# Altium footprint library QFN.PcbLib: 46 footprints (part 2 of 3)
Each footprint in its own frame and in the unit in brackets; x right, y up, seen from the top. Pads: shape width x height; smd on the part's side, far side on the other; paste and mask are expansions set on the pad; w line width, h text height; cw(c..) or ccw(c..) is an arc to the next point about the centre after c.
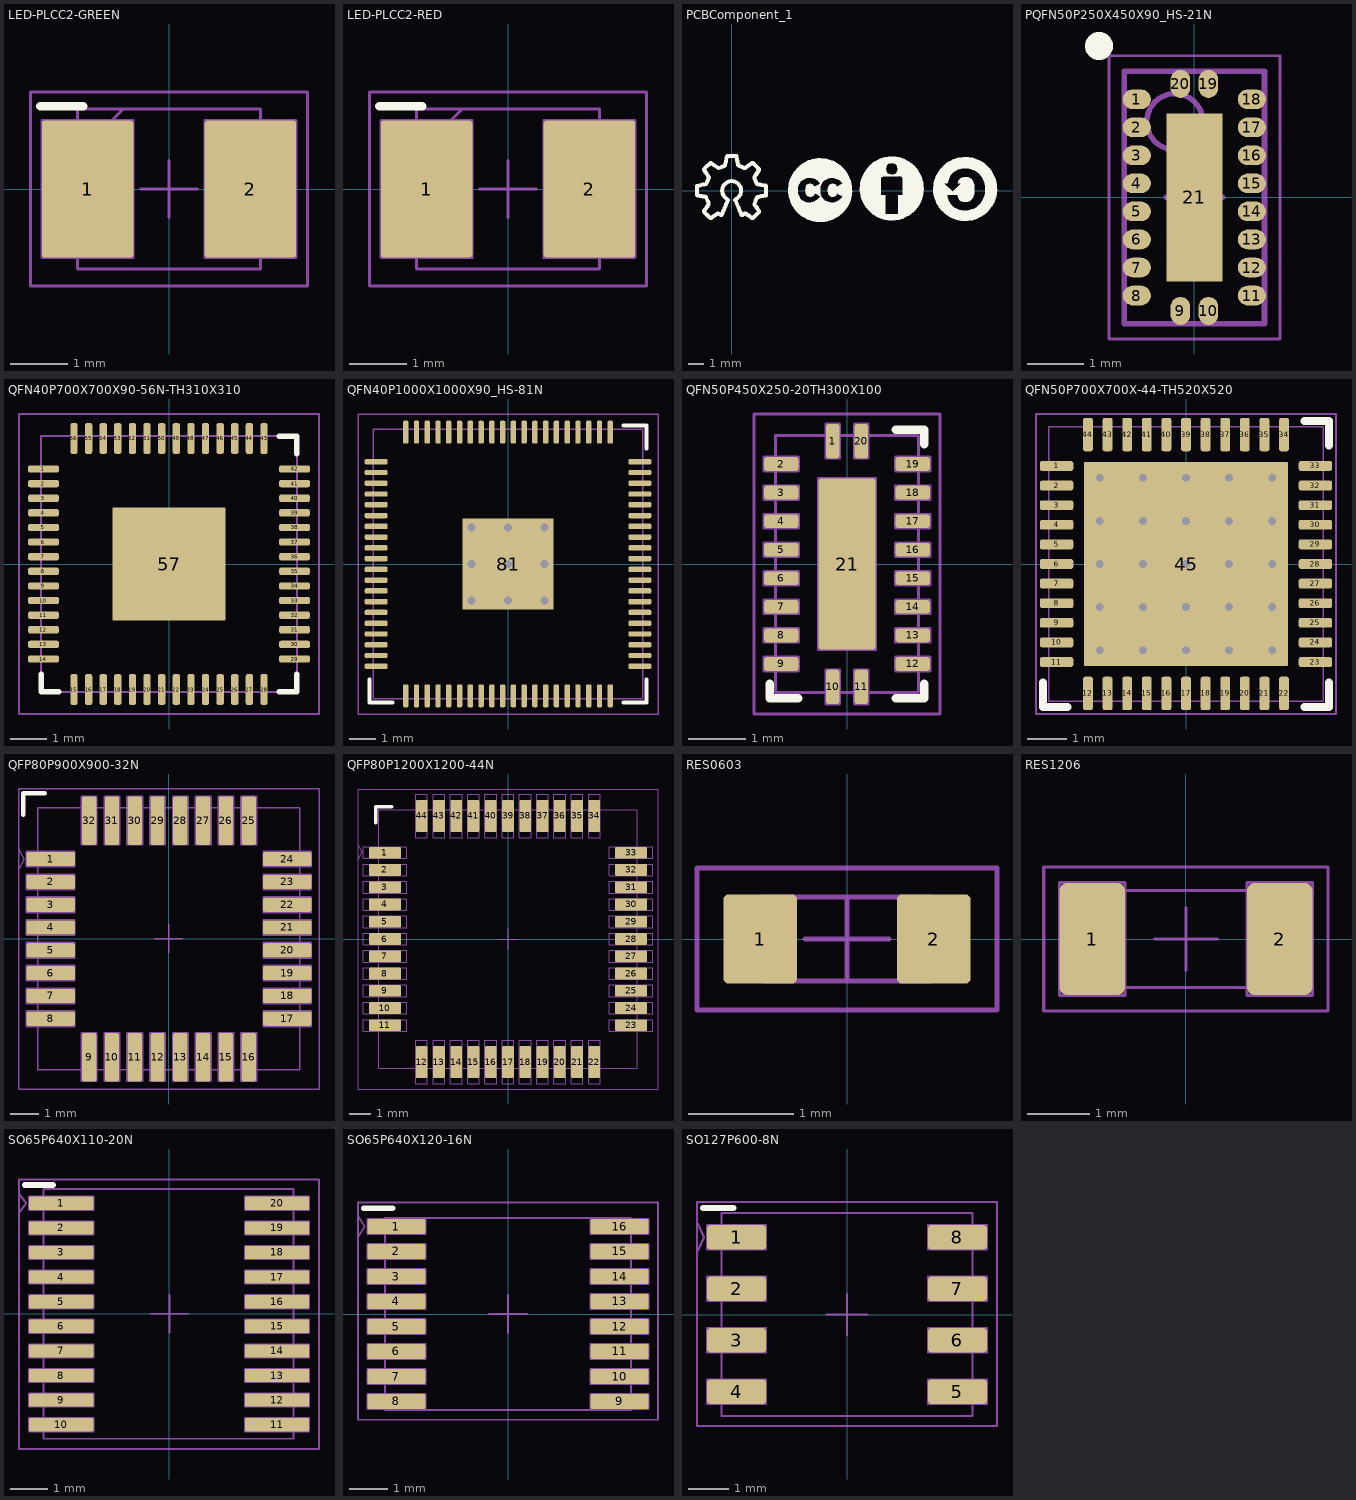
[diagram p1: the footprints below, top view; thin cyan lines are the x and y axes]

## LED-PLCC2-GREEN [mm] "SMD Mono-color TOP LED, body 3.2x2.8mm"
height 1.9
pads (2):
  rrect6% 1.6x2.4 smd mask+0.05: 1(-1.425,0) 2(1.425,0)
Top Overlay:
  lines w0.15: -2.25,1.45 -1.5,1.45
Top Courtyard:
  lines w0.05: -0.5,0 0.5,0 ; 0,-0.5 0,0.5 ; -2.425,-1.7 2.425,-1.7 2.425,1.7 -2.425,1.7 -2.425,-1.7
Top Assembly:
  lines w0.05: -1.6,0.6 -0.8,1.4 ; -2.225,-1.2 -0.625,-1.2 -0.625,1.2 -1.425,1.2 -2.225,1.2 -2.225,-1.2 ; -1.6,-1.4 1.6,-1.4 1.6,1.4 -1.6,1.4 -1.6,-1.4 ; 0.625,-1.2 2.225,-1.2 2.225,1.2 1.425,1.2 0.625,1.2 0.625,0 0.625,-1.2
  text "K" at -2.225,-1.185 h2
3D body: height 1.27, standoff 0, extent -1,-1 1,1
3D body "150141xxx73113.stp": height 1.9, standoff 0, extent -1.75,-1.4 1.75,1.4

## LED-PLCC2-RED [mm] "SMD Mono-color TOP LED, body 3.2x2.8mm"
height 1.9
pads (2):
  rrect6% 1.6x2.4 smd mask+0.05: 1(-1.425,0) 2(1.425,0)
Top Overlay:
  lines w0.15: -2.25,1.45 -1.5,1.45
Top Courtyard:
  lines w0.05: -0.5,0 0.5,0 ; 0,-0.5 0,0.5 ; -2.425,-1.7 2.425,-1.7 2.425,1.7 -2.425,1.7 -2.425,-1.7
Top Assembly:
  lines w0.05: -1.6,0.6 -0.8,1.4 ; -2.225,-1.2 -0.625,-1.2 -0.625,1.2 -1.425,1.2 -2.225,1.2 -2.225,-1.2 ; -1.6,-1.4 1.6,-1.4 1.6,1.4 -1.6,1.4 -1.6,-1.4 ; 0.625,-1.2 2.225,-1.2 2.225,1.2 1.425,1.2 0.625,1.2 0.625,0 0.625,-1.2
  text "K" at -2.225,-1.185 h2
3D body: height 1.27, standoff 0, extent -1,-1 1,1
3D body "150141xxx73113.stp": height 1.9, standoff 0, extent -1.75,-1.4 1.75,1.4

## PCBComponent_1 [mm]
Top Overlay:
  drawing of 274 lines, arcs and shapes, not listed

## PCBComponent_1 - duplicate [mm]

## PQFN50P250X450X90_HS-21N [mm] "PQFN, 20-Leads, Body 2.50x4.50mm, Pitch 0.50mm, Thermal Pad 1.00x3.00mm, IPC Medium Density"
height 0.9
pads (21):
  oval 0.5x0.35 smd: 1(-1.025,1.75) 2(-1.025,1.25) 3(-1.025,0.75) 4(-1.025,0.25) 5(-1.025,-0.25) 6(-1.025,-0.75) 7(-1.025,-1.25) 8(-1.025,-1.75) 11(1.025,-1.75) 12(1.025,-1.25) 13(1.025,-0.75) 14(1.025,-0.25) 15(1.025,0.25) 16(1.025,0.75) 17(1.025,1.25) 18(1.025,1.75)
  oval 0.35x0.5 smd: 9(-0.25,-2.025) 10(0.25,-2.025) 19(0.25,2.025) 20(-0.25,2.025)
  rect 1x3 smd: 21(0,0)
Top Overlay:
  circle w0.25: c-1.7,2.7 r0.125
Top Courtyard:
  lines w0.05: -1.525,-2.525 1.525,-2.525 1.525,2.525 -1.525,2.525 -1.525,-2.525
  lines w0.1: -0.5,0 0.5,0 ; 0,-0.5 0,0.5
Top Assembly:
  circle w0.1: c-0.35,1.35 r0.5
  lines w0.1: -1.25,-2.25 1.25,-2.25 1.25,2.25 -1.25,2.25 -1.25,-2.25
3D body "PQFN50P250X450X90_HS-21N.step": height 0.9, standoff 0, extent -1.25,-2.25 1.25,2.25

## QFN40P700X700X90-56N-TH310X310 [mm]
height 0.9
pads (57):
  rrect50% 0.84x0.2 smd mask+0.05: 1(-3.435,2.6) 2(-3.435,2.2) 3(-3.435,1.8) 4(-3.435,1.4) 5(-3.435,1) 6(-3.435,0.6) 7(-3.435,0.2) 8(-3.435,-0.2) 9(-3.435,-0.6) 10(-3.435,-1) 11(-3.435,-1.4) 12(-3.435,-1.8) 13(-3.435,-2.2) 14(-3.435,-2.6) 29(3.435,-2.6) 30(3.435,-2.2) 31(3.435,-1.8) 32(3.435,-1.4) 33(3.435,-1) 34(3.435,-0.6) 35(3.435,-0.2) 36(3.435,0.2) 37(3.435,0.6) 38(3.435,1) 39(3.435,1.4) 40(3.435,1.8) 41(3.435,2.2) 42(3.435,2.6)
  rrect50% 0.2x0.84 smd mask+0.05: 15(-2.6,-3.435) 16(-2.2,-3.435) 17(-1.8,-3.435) 18(-1.4,-3.435) 19(-1,-3.435) 20(-0.6,-3.435) 21(-0.2,-3.435) 22(0.2,-3.435) 23(0.6,-3.435) 24(1,-3.435) 25(1.4,-3.435) 26(1.8,-3.435) 27(2.2,-3.435) 28(2.6,-3.435) 43(2.6,3.435) 44(2.2,3.435) 45(1.8,3.435) 46(1.4,3.435) 47(1,3.435) 48(0.6,3.435) 49(0.2,3.435) 50(-0.2,3.435) 51(-0.6,3.435) 52(-1,3.435) 53(-1.4,3.435) 54(-1.8,3.435) 55(-2.2,3.435) 56(-2.6,3.435)
  rrect3% 3.1x3.1 smd paste-0.57 mask+0.05: 57(0,0)
Top Overlay:
  lines w0.15: -3.5,-3.02 -3.5,-3.5 -3.02,-3.5 ; 3.02,-3.5 3.5,-3.5 3.5,-3.02 ; 3.02,3.5 3.5,3.5 3.5,3.02
Top Courtyard:
  lines w0.05: -4.105,-4.105 4.105,-4.105 4.105,4.105 -4.105,4.105 -4.105,-4.105
Top Assembly:
  lines w0.05: -3.5,-3.5 -3.5,3.5 3.5,3.5 3.5,-3.5 -3.5,-3.5
3D body "step_temp.STEP": height 0.9, standoff 0, extent -3.5,-3.5 3.5,3.5

## QFN40P1000X1000X90_HS-81N [mm] "QFN, 80-Leads, Body 10.00x10.00mm, Pitch 0.40mm, Thermal Pad 3.40x3.40mm, IPC Medium Density"
height 0.9
pads (81):
  rrect50% 0.85x0.2 smd mask+0.05: 1(-4.9,3.8) 2(-4.9,3.4) 3(-4.9,3) 4(-4.9,2.6) 5(-4.9,2.2) 6(-4.9,1.8) 7(-4.9,1.4) 8(-4.9,1) 9(-4.9,0.6) 10(-4.9,0.2) 11(-4.9,-0.2) 12(-4.9,-0.6) 13(-4.9,-1) 14(-4.9,-1.4) 15(-4.9,-1.8) 16(-4.9,-2.2) 17(-4.9,-2.6) 18(-4.9,-3) 19(-4.9,-3.4) 20(-4.9,-3.8) 41(4.9,-3.8) 42(4.9,-3.4) 43(4.9,-3) 44(4.9,-2.6) 45(4.9,-2.2) 46(4.9,-1.8) 47(4.9,-1.4) 48(4.9,-1) 49(4.9,-0.6) 50(4.9,-0.2) 51(4.9,0.2) 52(4.9,0.6) 53(4.9,1) 54(4.9,1.4) 55(4.9,1.8) 56(4.9,2.2) 57(4.9,2.6) 58(4.9,3) 59(4.9,3.4) 60(4.9,3.8)
  rrect50% 0.2x0.85 smd mask+0.05: 21(-3.8,-4.9) 22(-3.4,-4.9) 23(-3,-4.9) 24(-2.6,-4.9) 25(-2.2,-4.9) 26(-1.8,-4.9) 27(-1.4,-4.9) 28(-1,-4.9) 29(-0.6,-4.9) 30(-0.2,-4.9) 31(0.2,-4.9) 32(0.6,-4.9) 33(1,-4.9) 34(1.4,-4.9) 35(1.8,-4.9) 36(2.2,-4.9) 37(2.6,-4.9) 38(3,-4.9) 39(3.4,-4.9) 40(3.8,-4.9) 61(3.8,4.9) 62(3.4,4.9) 63(3,4.9) 64(2.6,4.9) 65(2.2,4.9) 66(1.8,4.9) 67(1.4,4.9) 68(1,4.9) 69(0.6,4.9) 70(0.2,4.9) 71(-0.2,4.9) 72(-0.6,4.9) 73(-1,4.9) 74(-1.4,4.9) 75(-1.8,4.9) 76(-2.2,4.9) 77(-2.6,4.9) 78(-3,4.9) 79(-3.4,4.9) 80(-3.8,4.9)
  rrect2% 3.4x3.4 smd paste-5 mask+0.05: 81(0,0)
via 1.35,0 diameter 0.6 hole 0.3
via -1.35,0 diameter 0.6 hole 0.3
via 0,-1.35 diameter 0.6 hole 0.3
via 0,1.35 diameter 0.6 hole 0.3
via -1.35,1.35 diameter 0.6 hole 0.3
via 1.35,1.35 diameter 0.6 hole 0.3
via 1.35,-1.35 diameter 0.6 hole 0.3
via -1.35,-1.35 diameter 0.6 hole 0.3
via 0,0 diameter 0.6 hole 0.3
Top Overlay:
  lines w0.15: -5.15,-4.3 -5.15,-5.15 -4.3,-5.15 ; 4.3,-5.15 5.15,-5.15 5.15,-4.3 ; 4.3,5.15 5.15,5.15 5.15,4.3
Top Paste:
  rectangle: -1.175,0.175 -0.175,1.175
  region: 1.175,1.175 0.175,1.175 0.175,0.175 1.175,0.175
  region: 1.175,-0.175 0.175,-0.175 0.175,-1.175 1.175,-1.175
  rectangle: -1.175,-1.175 -0.175,-0.175
Top Courtyard:
  lines w0.05: -5.575,-5.575 5.575,-5.575 5.575,5.575 -5.575,5.575 -5.575,-5.575
  lines w0.1: -0.5,0 0.5,0 ; 0,-0.5 0,0.5
Top Assembly:
  lines w0.05: -5,-5 5,-5 5,5 -5,5 -5,-5
3D body "QFN40P1000X1000X90_HS-81N.step": height 0.9, standoff 0, extent -5.01,-5.01 5.01,5.01

## QFN50P450X250-20TH300X100 [mm]
pads (21):
  rrect41% 0.24x0.6 smd mask+0.051: 1(-0.25,2.15) 10(-0.25,-2.15) 11(0.25,-2.15) 20(0.25,2.15)
  rrect41% 0.6x0.24 smd mask+0.051: 2(-1.15,1.75) 3(-1.15,1.25) 4(-1.15,0.75) 5(-1.15,0.25) 6(-1.15,-0.25) 7(-1.15,-0.75) 8(-1.15,-1.25) 9(-1.15,-1.75) 12(1.15,-1.75) 13(1.15,-1.25) 14(1.15,-0.75) 15(1.15,-0.25) 16(1.15,0.25) 17(1.15,0.75) 18(1.15,1.25) 19(1.15,1.75)
  rrect10% 1x3 smd mask+0.051: 21(0,0)
Top Overlay:
  lines w0.15: -1.35,-2.1 -1.35,-2.35 -0.85,-2.35 ; 0.85,-2.35 1.35,-2.35 1.35,-2.1 ; 0.85,2.35 1.35,2.35 1.35,2.1
Top Courtyard:
  lines w0.05: -0.25,0 0,0 ; 0,-0.25 0,0 ; 0,0.25 0,0 ; 0.25,0 0,0 ; -1.625,-2.625 1.625,-2.625 1.625,2.625 -1.625,2.625 -1.625,-1.75 -1.625,-2.625
Top Assembly:
  lines w0.05: -1.45,-1.87 -0.85,-1.87 -0.85,-1.63 -1.45,-1.63 -1.45,-1.75 -1.45,-1.87 ; -1.45,-1.37 -0.85,-1.37 -0.85,-1.13 -1.45,-1.13 -1.45,-1.25 -1.45,-1.37 ; -1.45,-0.87 -0.85,-0.87 -0.85,-0.63 -1.45,-0.63 -1.45,-0.75 -1.45,-0.87 ; -1.45,-0.37 -0.85,-0.37 -0.85,-0.13 -1.45,-0.13 -1.45,-0.25 -1.45,-0.37 ; -1.45,0.13 -0.85,0.13 -0.85,0.37 -1.45,0.37 -1.45,0.25 -1.45,0.13 ; -1.45,0.63 -0.85,0.63 -0.85,0.87 -1.45,0.87 -1.45,0.75 -1.45,0.63 ; -1.45,1.13 -0.85,1.13 -0.85,1.37 -1.45,1.37 -1.45,1.25 -1.45,1.13 ; -1.45,1.63 -0.85,1.63 -0.85,1.87 -1.45,1.87 -1.45,1.75 -1.45,1.63 ; -1.25,-2.25 -1.25,2.25 1.25,2.25 1.25,-2.25 -1.25,-2.25 ; -0.5,-1.5 0.5,-1.5 0.5,1.5 0,1.5 -0.5,1.5 -0.5,-1.5 ; -0.37,-2.45 -0.25,-2.45 -0.13,-2.45 -0.13,-1.85 -0.37,-1.85 -0.37,-2.45 ; -0.37,1.85 -0.13,1.85 -0.13,2.45 -0.25,2.45 -0.37,2.45 -0.37,1.85 ; 0.13,-2.45 0.25,-2.45 0.37,-2.45 0.37,-1.85 0.13,-1.85 0.13,-2.45 ; 0.13,1.85 0.37,1.85 0.37,2.45 0.25,2.45 0.13,2.45 0.13,1.85 ; 0.85,-1.87 1.45,-1.87 1.45,-1.63 0.85,-1.63 0.85,-1.75 0.85,-1.87 ; 0.85,-1.37 1.45,-1.37 1.45,-1.13 0.85,-1.13 0.85,-1.25 0.85,-1.37 ; 0.85,-0.87 1.45,-0.87 1.45,-0.63 0.85,-0.63 0.85,-0.75 0.85,-0.87 ; 0.85,-0.37 1.45,-0.37 1.45,-0.13 0.85,-0.13 0.85,-0.25 0.85,-0.37 ; 0.85,0.13 1.45,0.13 1.45,0.37 0.85,0.37 0.85,0.25 0.85,0.13 ; 0.85,0.63 1.45,0.63 1.45,0.87 0.85,0.87 0.85,0.75 0.85,0.63 ; 0.85,1.13 1.45,1.13 1.45,1.25 1.45,1.37 0.85,1.37 0.85,1.13 ; 0.85,1.63 1.45,1.63 1.45,1.75 1.45,1.87 0.85,1.87 0.85,1.63
3D body "PQFN50P250X450X90_HS-21N.step": height 0.9, standoff 0, extent -1.25,-2.25 1.25,2.25

## QFN50P700X700X-44-TH520X520 [mm] "QFN, 44-Leads, Body 7.00x7.00mm, Pitch 0.50mm, Thermal Pad 5.20x5.20mm, IPC High Density"
height 1
pads (45):
  rrect40% 0.85x0.25 smd mask+0.05: 1(-3.3,2.5) 2(-3.3,2) 3(-3.3,1.5) 4(-3.3,1) 5(-3.3,0.5) 6(-3.3,0) 7(-3.3,-0.5) 8(-3.3,-1) 9(-3.3,-1.5) 10(-3.3,-2) 11(-3.3,-2.5) 23(3.3,-2.5) 24(3.3,-2) 25(3.3,-1.5) 26(3.3,-1) 27(3.3,-0.5) 28(3.3,0) 29(3.3,0.5) 30(3.3,1) 31(3.3,1.5) 32(3.3,2) 33(3.3,2.5)
  rrect40% 0.25x0.85 smd mask+0.05: 12(-2.5,-3.3) 13(-2,-3.3) 14(-1.5,-3.3) 15(-1,-3.3) 16(-0.5,-3.3) 17(0,-3.3) 18(0.5,-3.3) 19(1,-3.3) 20(1.5,-3.3) 21(2,-3.3) 22(2.5,-3.3) 34(2.5,3.3) 35(2,3.3) 36(1.5,3.3) 37(1,3.3) 38(0.5,3.3) 39(0,3.3) 40(-0.5,3.3) 41(-1,3.3) 42(-1.5,3.3) 43(-2,3.3) 44(-2.5,3.3)
  rrect1% 5.2x5.2 smd mask+0.05: 45(0,0)
via 2.2,-2.2 diameter 0.5 hole 0.2
via 1.1,-2.2 diameter 0.5 hole 0.2
via 0,-2.2 diameter 0.5 hole 0.2
via -1.1,-2.2 diameter 0.5 hole 0.2
via -2.2,-2.2 diameter 0.5 hole 0.2
via 2.2,-1.1 diameter 0.5 hole 0.2
via 1.1,-1.1 diameter 0.5 hole 0.2
via 0,-1.1 diameter 0.5 hole 0.2
via -1.1,-1.1 diameter 0.5 hole 0.2
via -2.2,-1.1 diameter 0.5 hole 0.2
via 2.2,0 diameter 0.5 hole 0.2
via 1.1,0 diameter 0.5 hole 0.2
via 0,0 diameter 0.5 hole 0.2
via -1.1,0 diameter 0.5 hole 0.2
via -2.2,0 diameter 0.5 hole 0.2
via 2.2,1.1 diameter 0.5 hole 0.2
via 1.1,1.1 diameter 0.5 hole 0.2
via 0,1.1 diameter 0.5 hole 0.2
via -1.1,1.1 diameter 0.5 hole 0.2
via -2.2,1.1 diameter 0.5 hole 0.2
via 2.2,2.2 diameter 0.5 hole 0.2
via 1.1,2.2 diameter 0.5 hole 0.2
via 0,2.2 diameter 0.5 hole 0.2
via -1.1,2.2 diameter 0.5 hole 0.2
via -2.2,2.2 diameter 0.5 hole 0.2
Top Overlay:
  lines w0.2: -3.65,-3.025 -3.65,-3.65 -3.025,-3.65 ; 3.025,-3.65 3.65,-3.65 3.65,-3.025 ; 3.025,3.65 3.65,3.65 3.65,3.025
Top Courtyard:
  lines w0.05: -3.825,-3.825 3.825,-3.825 3.825,3.825 -3.825,3.825 -3.825,-3.825
  lines w0.1: -0.5,0 0.5,0 ; 0,-0.5 0,0.5
Top Assembly:
  lines w0.05: -3.5,-3.5 3.5,-3.5 3.5,3.5 -3.5,3.5 -3.5,-3.5
3D body "QFN50P700X700X100_HS-45L.step": height 1, standoff 0, extent -3.52,-3.52 3.52,3.52

## QFP80P900X900-32N [mm] "TQFP80P900X900 32N"
height 1.2
pads (32):
  rrect25% 1.7x0.5 smd mask+0.075: 1(-4.139,2.791) 2(-4.139,1.991) 3(-4.139,1.191) 4(-4.139,0.391) 5(-4.139,-0.409) 6(-4.139,-1.209) 7(-4.139,-2.009) 8(-4.139,-2.809) 17(4.161,-2.809) 18(4.161,-2.009) 19(4.161,-1.209) 20(4.161,-0.409) 21(4.161,0.391) 22(4.161,1.191) 23(4.161,1.991) 24(4.161,2.791)
  rrect25% 0.5x1.7 smd mask+0.075: 9(-2.789,-4.159) 10(-1.989,-4.159) 11(-1.189,-4.159) 12(-0.389,-4.159) 13(0.411,-4.159) 14(1.211,-4.159) 15(2.011,-4.159) 16(2.811,-4.159) 25(2.811,4.141) 26(2.011,4.141) 27(1.211,4.141) 28(0.411,4.141) 29(-0.389,4.141) 30(-1.189,4.141) 31(-1.989,4.141) 32(-2.789,4.141)
Top Overlay:
  lines w0.15: -5.1,4.35 -5.1,5.1 -4.35,5.1
Top Courtyard:
  lines w0.05: -5.25,2.441 -5.064,2.791 -5.25,3.141 ; -0.5,0 0,0 ; 0,-0.5 0,0 ; 0,0.5 0,0 ; 0.5,0 0,0 ; -5.25,-5.275 -5.25,5.25 5.275,5.25 5.275,-5.275 -5.25,-5.275
Top Assembly:
  lines w0.05: -4.989,-3.084 -4.989,-2.534 -3.289,-2.534 -3.289,-3.084 -4.989,-3.084 ; -4.989,-2.284 -4.989,-1.734 -3.289,-1.734 -3.289,-2.284 -4.989,-2.284 ; -4.989,-1.484 -4.989,-0.934 -3.289,-0.934 -3.289,-1.484 -4.989,-1.484 ; -4.989,-0.684 -4.989,-0.134 -3.289,-0.134 -3.289,-0.684 -4.989,-0.684 ; -4.989,0.116 -4.989,0.666 -3.289,0.666 -3.289,0.116 -4.989,0.116 ; -4.989,0.916 -4.989,1.466 -3.289,1.466 -3.289,0.916 -4.989,0.916 ; -4.989,1.716 -4.989,2.266 -3.289,2.266 -3.289,1.716 -4.989,1.716 ; -4.989,2.516 -4.989,3.066 -3.289,3.066 -3.289,2.516 -4.989,2.516 ; -4.599,-4.6 -4.599,4.599 4.599,4.599 4.599,-4.6 -4.599,-4.6 ; -3.064,-5.009 -3.064,-3.309 -2.514,-3.309 -2.514,-5.009 -3.064,-5.009 ; -3.064,3.291 -3.064,4.991 -2.514,4.991 -2.514,3.291 -3.064,3.291 ; -2.264,-5.009 -2.264,-3.309 -1.714,-3.309 -1.714,-5.009 -2.264,-5.009 ; -2.264,3.291 -2.264,4.991 -1.714,4.991 -1.714,3.291 -2.264,3.291 ; -1.464,-5.009 -1.464,-3.309 -0.914,-3.309 -0.914,-5.009 -1.464,-5.009 ; -1.464,3.291 -1.464,4.991 -0.914,4.991 -0.914,3.291 -1.464,3.291 ; -0.664,-5.009 -0.664,-3.309 -0.114,-3.309 -0.114,-5.009 -0.664,-5.009 ; -0.664,3.291 -0.664,4.991 -0.114,4.991 -0.114,3.291 -0.664,3.291 ; 0.136,-5.009 0.136,-3.309 0.686,-3.309 0.686,-5.009 0.136,-5.009 ; 0.136,3.291 0.136,4.991 0.686,4.991 0.686,3.291 0.136,3.291 ; 0.936,-5.009 0.936,-3.309 1.486,-3.309 1.486,-5.009 0.936,-5.009 ; 0.936,3.291 0.936,4.991 1.486,4.991 1.486,3.291 0.936,3.291 ; 1.736,-5.009 1.736,-3.309 2.286,-3.309 2.286,-5.009 1.736,-5.009 ; 1.736,3.291 1.736,4.991 2.286,4.991 2.286,3.291 1.736,3.291 ; 2.536,-5.009 2.536,-3.309 3.086,-3.309 3.086,-5.009 2.536,-5.009 ; 2.536,3.291 2.536,4.991 3.086,4.991 3.086,3.291 2.536,3.291 ; 3.311,-3.084 3.311,-2.534 5.011,-2.534 5.011,-3.084 3.311,-3.084 ; 3.311,-2.284 3.311,-1.734 5.011,-1.734 5.011,-2.284 3.311,-2.284 ; 3.311,-1.484 3.311,-0.934 5.011,-0.934 5.011,-1.484 3.311,-1.484 ; 3.311,-0.684 3.311,-0.134 5.011,-0.134 5.011,-0.684 3.311,-0.684 ; 3.311,0.116 3.311,0.666 5.011,0.666 5.011,0.116 3.311,0.116 ; 3.311,0.916 3.311,1.466 5.011,1.466 5.011,0.916 3.311,0.916 ; 3.311,1.716 3.311,2.266 5.011,2.266 5.011,1.716 3.311,1.716 ; 3.311,2.516 3.311,3.066 5.011,3.066 5.011,2.516 3.311,2.516
3D body "User Library-tqfp32.step": height 1.2, standoff 0, extent -4.599,-4.6 4.599,4.599

## QFP80P1200X1200-44N [mm] "TQFP80P1200X1200 44N"
height 1.1
pads (44):
  rrect25% 1.5x0.54 smd mask+0.075: 1(-5.7,4) 2(-5.7,3.2) 3(-5.7,2.4) 4(-5.7,1.6) 5(-5.7,0.8) 6(-5.7,0) 7(-5.7,-0.8) 8(-5.7,-1.6) 9(-5.7,-2.4) 10(-5.7,-3.2) 11(-5.7,-4) 23(5.7,-4) 24(5.7,-3.2) 25(5.7,-2.4) 26(5.7,-1.6) 27(5.7,-0.8) 28(5.7,0) 29(5.7,0.8) 30(5.7,1.6) 31(5.7,2.4) 32(5.7,3.2) 33(5.7,4)
  rrect25% 0.54x1.5 smd mask+0.075: 12(-4,-5.7) 13(-3.2,-5.7) 14(-2.4,-5.7) 15(-1.6,-5.7) 16(-0.8,-5.7) 17(0,-5.7) 18(0.8,-5.7) 19(1.6,-5.7) 20(2.4,-5.7) 21(3.2,-5.7) 22(4,-5.7) 34(4,5.7) 35(3.2,5.7) 36(2.4,5.7) 37(1.6,5.7) 38(0.8,5.7) 39(0,5.7) 40(-0.8,5.7) 41(-1.6,5.7) 42(-2.4,5.7) 43(-3.2,5.7) 44(-4,5.7)
Top Overlay:
  lines w0.152: -6.125,5.375 -6.125,6.125 -5.375,6.125
Top Courtyard:
  lines w0.05: -6.95,3.655 -6.775,4 -6.95,4.345 ; -0.5,0 0,0 ; 0,-0.5 0,0 ; 0,0.5 0,0 ; 0.5,0 0,0 ; -6.95,-6.95 6.95,-6.95 6.95,6.95 -6.95,6.95 -6.95,-6.95
Top Assembly:
  drawing of 180 lines, arcs and shapes, not listed
  text "1" at -6.7,3.73 h0.3
3D body "User Library-TQFP-44-1.STEP": height 1.1, standoff 0, extent -6,-6 6,6

## RES0603 [mm] "Chip Resistor, 2-Leads, Body 1.60x0.80mm, IPC Medium Density"
height 0.45
pads (2):
  rrect14% 0.7x0.85 smd mask+0.05: 1(-0.825,0) 2(0.825,0)
Top Courtyard:
  lines w0.05: -0.4,0 0,0 ; 0,-0.4 0,0 ; 0,0.4 0,0 ; 0.4,0 0,0 ; -1.425,-0.675 -1.425,0.675 1.425,0.675 1.425,-0.675 -1.425,-0.675
Top Assembly:
  lines w0.05: -0.8,-0.4 -0.8,0.4 0.8,0.4 0.8,-0.4 -0.8,-0.4
3D body "RESC1608X04N.step": height 0.45, standoff 0, extent -0.8,-0.4 0.8,0.4

## RES1206 [mm] "RESISTOR, CHIP 1206 (3216)"
height 0.474
pads (2):
  rrect25% 1.05x1.8 smd paste+0 mask+0.075: 1(-1.5,0) 2(1.5,0)
Top Courtyard:
  lines w0.05: -0.5,0 0,0 ; 0,-0.5 0,0 ; 0,0.5 0,0 ; 0.5,0 0,0 ; -2.275,-1.15 -2.275,1.15 2.275,1.15 2.275,-1.15 -2.275,-1.15
Top Assembly:
  lines w0.05: -2.025,-0.9 -2.025,0.9 -0.975,0.9 -0.975,-0.9 -2.025,-0.9 ; -1.55,-0.776 -1.55,0.776 1.55,0.776 1.55,-0.776 -1.55,-0.776 ; 0.975,-0.9 0.975,0.9 2.025,0.9 2.025,-0.9 0.975,-0.9
3D body "User Library-R1206.step": height 0.47, standoff 0, extent -1.55,-0.776 1.55,0.776

## SO65P640X110-20N [mm] "TSSOP20 - PITCH 0.65MM, SPAN 6.4MM"
height 1.79
pads (20):
  rrect25% 1.7x0.35 smd mask+0.075: 1(-2.859,2.92) 2(-2.859,2.27) 3(-2.859,1.62) 4(-2.859,0.97) 5(-2.859,0.32) 6(-2.859,-0.33) 7(-2.859,-0.98) 8(-2.859,-1.63) 9(-2.859,-2.28) 10(-2.859,-2.93) 11(2.841,-2.93) 12(2.841,-2.28) 13(2.841,-1.63) 14(2.841,-0.98) 15(2.841,-0.33) 16(2.841,0.32) 17(2.841,0.97) 18(2.841,1.62) 19(2.841,2.27) 20(2.841,2.92)
Top Overlay:
  lines w0.152: -3.825,3.4 -3.075,3.4
Top Courtyard:
  lines w0.05: -3.975,2.67 -3.784,2.92 -3.975,3.17 ; -0.5,0 0,0 ; 0,-0.5 0,0 ; 0,0.5 0,0 ; 0.5,0 0,0 ; -3.975,-3.575 -3.975,3.55 3.95,3.55 3.95,-3.575 -3.975,-3.575
Top Assembly:
  lines w0.05: -3.709,-3.105 -3.709,-2.755 -2.009,-2.755 -2.009,-3.105 -3.709,-3.105 ; -3.709,-2.455 -3.709,-2.105 -2.009,-2.105 -2.009,-2.455 -3.709,-2.455 ; -3.709,-1.805 -3.709,-1.455 -2.009,-1.455 -2.009,-1.805 -3.709,-1.805 ; -3.709,-1.155 -3.709,-0.805 -2.009,-0.805 -2.009,-1.155 -3.709,-1.155 ; -3.709,-0.505 -3.709,-0.155 -2.009,-0.155 -2.009,-0.505 -3.709,-0.505 ; -3.709,0.145 -3.709,0.495 -2.009,0.495 -2.009,0.145 -3.709,0.145 ; -3.709,0.795 -3.709,1.145 -2.009,1.145 -2.009,0.795 -3.709,0.795 ; -3.709,1.445 -3.709,1.795 -2.009,1.795 -2.009,1.445 -3.709,1.445 ; -3.709,2.095 -3.709,2.445 -2.009,2.445 -2.009,2.095 -3.709,2.095 ; -3.709,2.745 -3.709,3.095 -2.009,3.095 -2.009,2.745 -3.709,2.745 ; -3.325,-3.3 -3.325,3.3 3.275,3.3 3.275,-3.3 -3.325,-3.3 ; 1.991,-3.105 1.991,-2.755 3.691,-2.755 3.691,-3.105 1.991,-3.105 ; 1.991,-2.455 1.991,-2.105 3.691,-2.105 3.691,-2.455 1.991,-2.455 ; 1.991,-1.805 1.991,-1.455 3.691,-1.455 3.691,-1.805 1.991,-1.805 ; 1.991,-1.155 1.991,-0.805 3.691,-0.805 3.691,-1.155 1.991,-1.155 ; 1.991,-0.505 1.991,-0.155 3.691,-0.155 3.691,-0.505 1.991,-0.505 ; 1.991,0.145 1.991,0.495 3.691,0.495 3.691,0.145 1.991,0.145 ; 1.991,0.795 1.991,1.145 3.691,1.145 3.691,0.795 1.991,0.795 ; 1.991,1.445 1.991,1.795 3.691,1.795 3.691,1.445 1.991,1.445 ; 1.991,2.095 1.991,2.445 3.691,2.445 3.691,2.095 1.991,2.095 ; 1.991,2.745 1.991,3.095 3.691,3.095 3.691,2.745 1.991,2.745
  text "1" at -3.709,2.745 h0.3
3D body "SW3dPS-TSOP_20.step": height 1.79, standoff -0.05, extent -3.325,-3.3 3.275,3.3

## SO65P640X120-16N [mm] "TSSOP16, 0.65MM PITCH, 6.40MM SPAN, 1.2MM HEIGHT"
height 1.1
pads (16):
  rrect25% 1.5x0.4 smd mask+0.075: 1(-2.9,2.275) 2(-2.9,1.625) 3(-2.9,0.975) 4(-2.9,0.325) 5(-2.9,-0.325) 6(-2.9,-0.975) 7(-2.9,-1.625) 8(-2.9,-2.275) 9(2.9,-2.275) 10(2.9,-1.625) 11(2.9,-0.975) 12(2.9,-0.325) 13(2.9,0.325) 14(2.9,0.975) 15(2.9,1.625) 16(2.9,2.275)
Top Overlay:
  lines w0.152: -3.75,2.75 -3,2.75
Top Courtyard:
  lines w0.05: -3.9,2 -3.725,2.275 -3.9,2.55 ; -0.5,0 0,0 ; 0,-0.5 0,0 ; 0,0.5 0,0 ; 0.5,0 0,0 ; -3.9,-2.75 3.9,-2.75 3.9,2.9 -3.9,2.9 -3.9,-2.75
Top Assembly:
  lines w0.05: -3.65,-2.475 -2.15,-2.475 -2.15,-2.075 -3.65,-2.075 -3.65,-2.475 ; -3.65,-1.825 -2.15,-1.825 -2.15,-1.425 -3.65,-1.425 -3.65,-1.825 ; -3.65,-1.175 -2.15,-1.175 -2.15,-0.775 -3.65,-0.775 -3.65,-1.175 ; -3.65,-0.525 -2.15,-0.525 -2.15,-0.125 -3.65,-0.125 -3.65,-0.525 ; -3.65,0.125 -2.15,0.125 -2.15,0.525 -3.65,0.525 -3.65,0.125 ; -3.65,0.775 -2.15,0.775 -2.15,1.175 -3.65,1.175 -3.65,0.775 ; -3.65,1.425 -2.15,1.425 -2.15,1.825 -3.65,1.825 -3.65,1.425 ; -3.65,2.075 -2.15,2.075 -2.15,2.475 -3.65,2.475 -3.65,2.075 ; -3.2,-2.5 3.2,-2.5 3.2,2.5 -3.2,2.5 -3.2,-2.5 ; 2.15,-2.475 3.65,-2.475 3.65,-2.075 2.15,-2.075 2.15,-2.475 ; 2.15,-1.825 3.65,-1.825 3.65,-1.425 2.15,-1.425 2.15,-1.825 ; 2.15,-1.175 3.65,-1.175 3.65,-0.775 2.15,-0.775 2.15,-1.175 ; 2.15,-0.525 3.65,-0.525 3.65,-0.125 2.15,-0.125 2.15,-0.525 ; 2.15,0.125 3.65,0.125 3.65,0.525 2.15,0.525 2.15,0.125 ; 2.15,0.775 3.65,0.775 3.65,1.175 2.15,1.175 2.15,0.775 ; 2.15,1.425 3.65,1.425 3.65,1.825 2.15,1.825 2.15,1.425 ; 2.15,2.075 3.65,2.075 3.65,2.475 2.15,2.475 2.15,2.075
  text "1" at -3.65,2.075 h0.3
3D body "User Library-TSSOP-16-1.step": height 1.1, standoff 0, extent -3.2,-2.5 3.2,2.5

## SO127P600-8N [mm] "SO8"
height 1.75
pads (8):
  rrect25% 1.45x0.6 smd mask+0.075: 1(-2.725,1.905) 2(-2.725,0.635) 3(-2.725,-0.635) 4(-2.725,-1.905) 5(2.725,-1.905) 6(2.725,-0.635) 7(2.725,0.635) 8(2.725,1.905)
Top Overlay:
  lines w0.15: -3.55,2.625 -2.8,2.625
Top Courtyard:
  lines w0.05: -3.7,1.53 -3.525,1.905 -3.7,2.28 ; -0.5,0 0,0 ; 0,-0.5 0,0 ; 0,0.5 0,0 ; 0.5,0 0,0 ; -3.7,-2.75 3.7,-2.75 3.7,2.775 -3.7,2.775 -3.7,-2.75
Top Assembly:
  lines w0.05: -3.45,-2.205 -2,-2.205 -2,-1.605 -3.45,-1.605 -3.45,-2.205 ; -3.45,-0.935 -2,-0.935 -2,-0.335 -3.45,-0.335 -3.45,-0.935 ; -3.45,0.335 -2,0.335 -2,0.935 -3.45,0.935 -3.45,0.335 ; -3.45,1.605 -2,1.605 -2,2.205 -3.45,2.205 -3.45,1.605 ; -3.1,-2.5 3.1,-2.5 3.1,2.5 -3.1,2.5 -3.1,-2.5 ; 2,-2.205 3.45,-2.205 3.45,-1.605 2,-1.605 2,-2.205 ; 2,-0.935 3.45,-0.935 3.45,-0.335 2,-0.335 2,-0.935 ; 2,0.335 3.45,0.335 3.45,0.935 2,0.935 2,0.335 ; 2,1.605 3.45,1.605 3.45,2.205 2,2.205 2,1.605
  text "1" at -3.45,1.605 h0.3
3D body "SOIC127P620X175_HS-9N.step": height 1.75, standoff 0, extent -3.1,-2.5 3.1,2.5